# Altium schematic symbol library digital_synth_common.SchLib: 6 symbols
Pins are listed as number, name and electrical type; pins without a type are passive.

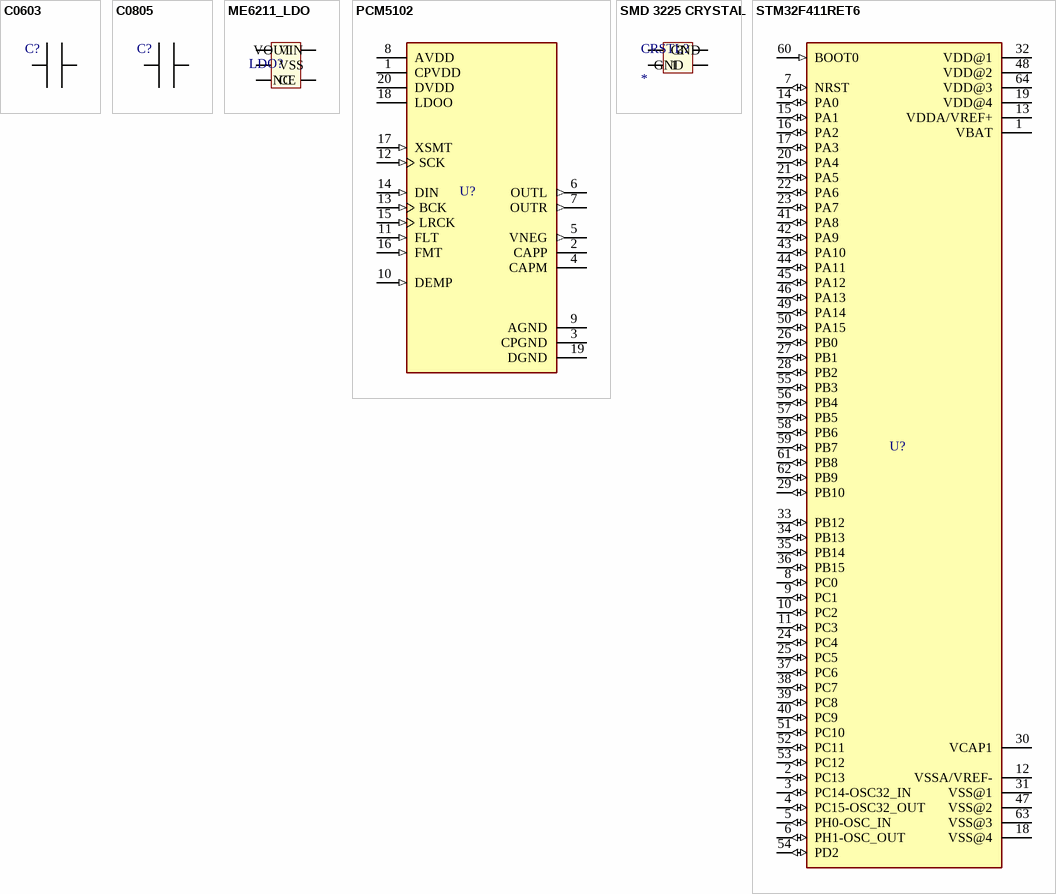
[diagram p0: symbols C0603 to STM32F411RET6]

## C0603
designator C?  (value not drawn)
footprint 0603
pins: 1 *, 2 *

## C0805
designator C?  (value not drawn)
footprint 0805
pins: 1 *, 2 *

## ME6211_LDO
designator LDO?  (value not drawn)
footprint ME6211C
pins: 1 VIN, 2 VSS, 3 CE, 4 VOUT, 5 NC

## PCM5102
designator U?  (value not drawn)
footprint PCM5102
pins: 1 CPVDD (power), 2 CAPP, 3 CPGND (power), 4 CAPM, 5 VNEG (out), 6 OUTL (out), 7 OUTR (out), 8 AVDD (power), 9 AGND (power), 10 DEMP (in), 11 FLT (in), 12 SCK (in), 13 BCK (in), 14 DIN (in), 15 LRCK (in), 16 FMT (in), 17 XSMT (in), 18 LDOO (power), 19 DGND (power), 20 DVDD (power)

## SMD 3225 CRYSTAL
designator CRSTL?
footprint 3225_CRST
pins: 1, 2 GND, 3, 4 GND

## STM32F411RET6
designator U?  (value not drawn)
footprint STM32F411RET6
pins: 1 VBAT (power), 2 PC13 (io), 3 PC14-OSC32_IN (io), 4 PC15-OSC32_OUT (io), 5 PH0-OSC_IN (io), 6 PH1-OSC_OUT (io), 7 NRST (io), 8 PC0 (io), 9 PC1 (io), 10 PC2 (io), 11 PC3 (io), 12 VSSA/VREF- (power), 13 VDDA/VREF+ (power), 14 PA0 (io), 15 PA1 (io), 16 PA2 (io), 17 PA3 (io), 18 VSS@4 (power), 19 VDD@4 (power), 20 PA4 (io), 21 PA5 (io), 22 PA6 (io), 23 PA7 (io), 24 PC4 (io), 25 PC5 (io), 26 PB0 (io), 27 PB1 (io), 28 PB2 (io), 29 PB10 (io), 30 VCAP1, 31 VSS@1 (power), 32 VDD@1 (power), 33 PB12 (io), 34 PB13 (io), 35 PB14 (io), 36 PB15 (io), 37 PC6 (io), 38 PC7 (io), 39 PC8 (io), 40 PC9 (io), 41 PA8 (io), 42 PA9 (io), 43 PA10 (io), 44 PA11 (io), 45 PA12 (io), 46 PA13 (io), 47 VSS@2 (power), 48 VDD@2 (power), 49 PA14 (io), 50 PA15 (io), 51 PC10 (io), 52 PC11 (io), 53 PC12 (io), 54 PD2 (io), 55 PB3 (io), 56 PB4 (io), 57 PB5 (io), 58 PB6 (io), 59 PB7 (io), 60 BOOT0 (in), 61 PB8 (io), 62 PB9 (io), 63 VSS@3 (power), 64 VDD@3 (power)